# Altium footprint library PMDXB600UNELZ.PcbLib: 3 footprints
Each footprint in its own frame and in the unit in brackets; x right, y up, seen from the top. Pads: shape width x height; smd on the part's side, far side on the other; paste and mask are expansions set on the pad; w line width, h text height; cw(c..) or ccw(c..) is an arc to the next point about the centre after c.
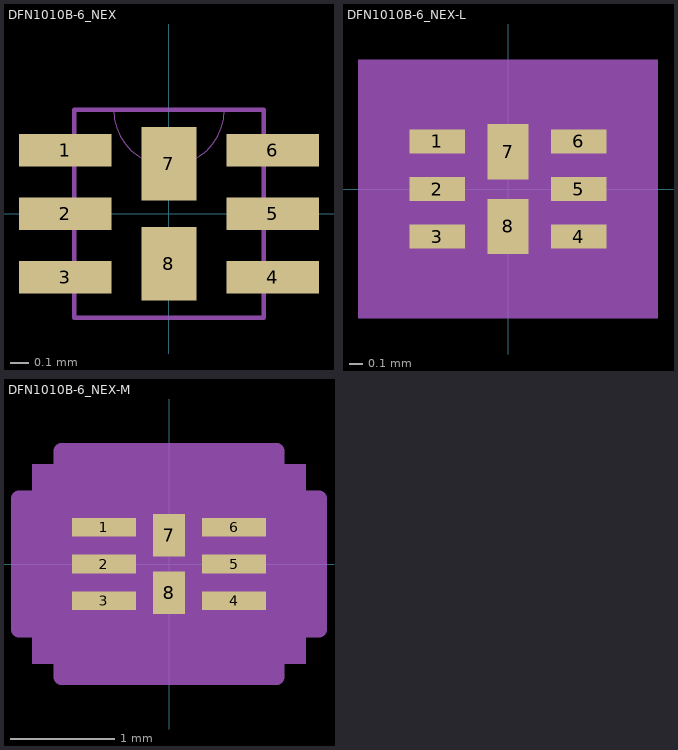
[diagram p0: the footprints below, top view; thin cyan lines are the x and y axes]

## DFN1010B-6_NEX [mil]
pads (8):
  rect 20x7 smd: 1(-22.5,13.78) 2(-22.5,0) 3(-22.5,-13.78) 4(22.5,-13.78) 5(22.5,0) 6(22.5,13.78)
  rect 12x16 smd paste+0: 7(0,10.83) 8(0,-10.83)
Mechanical 13:
  lines w0: -12,22.5 ccw(c0,22.5) 12,22.5
  lines w1: -20.5,-22.5 -20.5,22.5 20.5,22.5 20.5,-22.5 -20.5,-22.5
3D body "DFN1010B-6_NEX.step": height 2.01, standoff 0, extent -20.51,-22.52 20.51,22.52

## DFN1010B-6_NEX-L [mil]
pads (8):
  rect 16x7 smd: 1(-20.5,13.78) 2(-20.5,0) 3(-20.5,-13.78) 4(20.5,-13.78) 5(20.5,0) 6(20.5,13.78)
  rect 12x16 smd paste+0: 7(0,10.83) 8(0,-10.83)
Mechanical 5:
  region: 43.5,-37.5 -43.5,-37.5 -43.5,37.5 43.5,37.5
Mechanical 13:
  circle w0: c-12.5,13.78 r3
  lines w0: -12,22.5 ccw(c0,22.5) 12,22.5
  lines w1: -20.5,-22.5 20.5,-22.5 20.5,22.5 -20.5,22.5 -20.5,-22.5
Mechanical 15:
  region: -24.5,-21.47 -32.5,-21.47 -32.5,21.47 -24.5,21.47 -24.5,26.5 24.5,26.5 24.5,21.47 32.5,21.47 32.5,-21.47 24.5,-21.47 24.5,-26.5 -24.5,-26.5
  lines w6: -32.5,-21.47 -32.5,21.47 -24.5,21.47 -24.5,26.5 24.5,26.5 24.5,21.47 32.5,21.47 32.5,-21.47 24.5,-21.47 24.5,-26.5 -24.5,-26.5 -24.5,-21.47 -32.5,-21.47
3D body "DFN1010B-6_NEX.step": height 2.01, standoff 0, extent -20.51,-22.52 20.51,22.52

## DFN1010B-6_NEX-M [mil]
pads (8):
  rect 24x7 smd: 1(-24.5,13.78) 2(-24.5,0) 3(-24.5,-13.78) 4(24.5,-13.78) 5(24.5,0) 6(24.5,13.78)
  rect 12x16 smd paste+0: 7(0,10.83) 8(0,-10.83)
Mechanical 5:
  region: 51.5,-37.5 -51.5,-37.5 -51.5,37.5 51.5,37.5
Mechanical 13:
  circle w0: c-12.5,13.78 r3
  lines w0: -12,22.5 ccw(c0,22.5) 12,22.5
  lines w1: -20.5,-22.5 20.5,-22.5 20.5,22.5 -20.5,22.5 -20.5,-22.5
Mechanical 15:
  region: -40.5,-24.67 -56.5,-24.67 -56.5,24.67 -40.5,24.67 -40.5,42.5 40.5,42.5 40.5,24.67 56.5,24.67 56.5,-24.67 40.5,-24.67 40.5,-42.5 -40.5,-42.5
  lines w6: -56.5,-24.67 -56.5,24.67 -40.5,24.67 -40.5,42.5 40.5,42.5 40.5,24.67 56.5,24.67 56.5,-24.67 40.5,-24.67 40.5,-42.5 -40.5,-42.5 -40.5,-24.67 -56.5,-24.67
3D body "DFN1010B-6_NEX.step": height 2.01, standoff 0, extent -20.51,-22.52 20.51,22.52